# EAGLE library part 691328310012 (library Wurth_Elektronik_Electromechanic_Terminal_Blocks_Connectors_rev16b)
WR-TBL Serie 3283 – 3.81mm Close Horizontal Dual Row PCB Header With Flanges, 12 Pins=>Code : Con_TBL_Pluggable_3.81_PCB_THT_Double_691328310012 <http://katalog.we-online.de/media/images/eican/Con_TBL_Pluggable_3.81_PCB_THT_Double_6913283100xx_pf2.jpg> Details see: http://katalog.we-online.de/en/em/691_328_310_0xx Created 2014-06-19, Karrer Zheng 2014 (C) Würth Elektronik
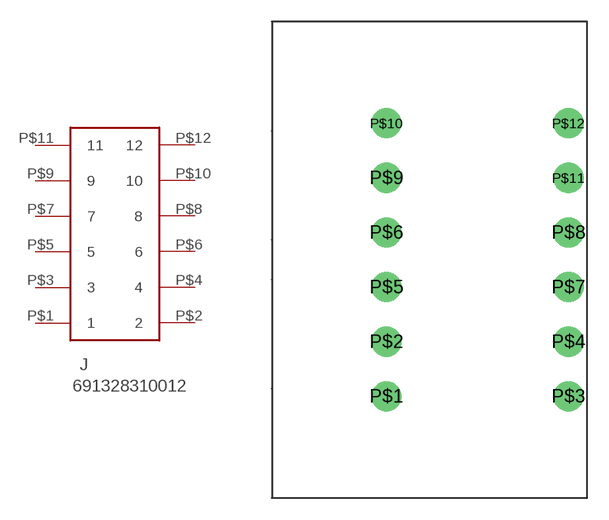
[diagram p390: symbol with the pads of 691328310012; footprint 691328310012]

Designator prefix J

## 691328310012  [691328310012]
P$1  1  pas
P$2  2  pas
P$3  3  pas
P$4  4  pas
P$5  5  pas
P$6  6  pas
P$7  7  pas
P$8  8  pas
P$9  9  pas
P$10  10  pas
P$11  11  pas
P$12  12  pas

## Footprint 691328310012 (pad centres in mm)
WR-TBL Serie 3283 – 3.81mm Close Horizontal Dual Row PCB Header With Flanges, 12 Pins
drill 1.4: P$1 0,0; P$2 0,3.81; P$3 12.7,0; P$4 12.7,3.81; P$5 0,7.62; P$6 0,11.43; P$7 12.7,7.62; P$8 12.7,11.43; P$9 0,15.24; P$10 0,19.05; P$11 12.7,15.24; P$12 12.7,19.05